# EAGLE library part IC_SMSC_USB2517 (library ScottsLib)
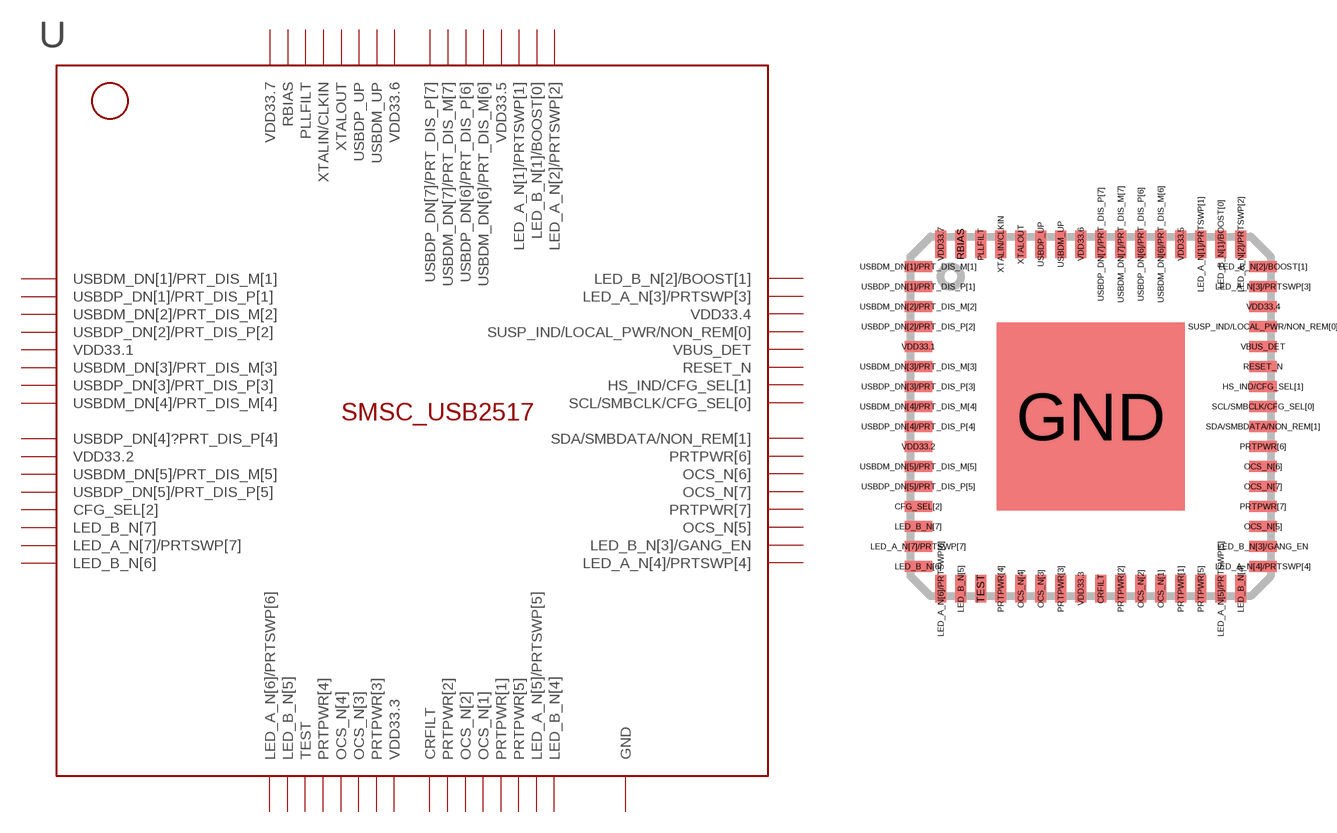
[diagram p0: symbol with the pads of QFN-64; footprint QFN-64]

Designator prefix -

## IC_SMSC_USB2517  [QFN-64]
CFG_SEL[2]  CFG_SEL[2]
CRFILT  CRFILT
GND  GND
HS_IND/CFG_SEL[1]  HS_IND/CFG_SEL[1]
LED_A_N[1]/PRTSWP[1]  LED_A_N[1]/PRTSWP[1]
LED_A_N[2]/PRTSWP[2]  LED_A_N[2]/PRTSWP[2]
LED_A_N[3]/PRTSWP[3]  LED_A_N[3]/PRTSWP[3]
LED_A_N[4]/PRTSWP[4]  LED_A_N[4]/PRTSWP[4]
LED_A_N[5]/PRTSWP[5]  LED_A_N[5]/PRTSWP[5]
LED_A_N[6]/PRTSWP[6]  LED_A_N[6]/PRTSWP[6]
LED_A_N[7]/PRTSWP[7]  LED_A_N[7]/PRTSWP[7]
LED_B_N[1]/BOOST[0]  LED_B_N[1]/BOOST[0]
LED_B_N[2]/BOOST[1]  LED_B_N[2]/BOOST[1]
LED_B_N[3]/GANG_EN  LED_B_N[3]/GANG_EN
LED_B_N[4]  LED_B_N[4]
LED_B_N[5]  LED_B_N[5]
LED_B_N[6]  LED_B_N[6]
LED_B_N[7]  LED_B_N[7]
OCS_N[1]  OCS_N[1]
OCS_N[2]  OCS_N[2]
OCS_N[3]  OCS_N[3]
OCS_N[4]  OCS_N[4]
OCS_N[5]  OCS_N[5]
OCS_N[6]  OCS_N[6]
OCS_N[7]  OCS_N[7]
PLLFILT  PLLFILT
PRTPWR[1]  PRTPWR[1]
PRTPWR[2]  PRTPWR[2]
PRTPWR[3]  PRTPWR[3]
PRTPWR[4]  PRTPWR[4]
PRTPWR[5]  PRTPWR[5]
PRTPWR[6]  PRTPWR[6]
PRTPWR[7]  PRTPWR[7]
RBIAS  RBIAS
RESET_N  RESET_N
SCL/SMBCLK/CFG_SEL[0]  SCL/SMBCLK/CFG_SEL[0]
SDA/SMBDATA/NON_REM[1]  SDA/SMBDATA/NON_REM[1]
SUSP_IND/LOCAL_PWR/NON_REM[0]  SUSP_IND/LOCAL_PWR/NON_REM[0]
TEST  TEST
USBDM_DN[1]/PRT_DIS_M[1]  USBDM_DN[1]/PRT_DIS_M[1]
USBDM_DN[2]/PRT_DIS_M[2]  USBDM_DN[2]/PRT_DIS_M[2]
USBDM_DN[3]/PRT_DIS_M[3]  USBDM_DN[3]/PRT_DIS_M[3]
USBDM_DN[4]/PRT_DIS_M[4]  USBDM_DN[4]/PRT_DIS_M[4]
USBDM_DN[5]/PRT_DIS_M[5]  USBDM_DN[5]/PRT_DIS_M[5]
USBDM_DN[6]/PRT_DIS_M[6]  USBDM_DN[6]/PRT_DIS_M[6]
USBDM_DN[7]/PRT_DIS_M[7]  USBDM_DN[7]/PRT_DIS_M[7]
USBDM_UP  USBDM_UP
USBDP_DN[1]/PRT_DIS_P[1]  USBDP_DN[1]/PRT_DIS_P[1]
USBDP_DN[2]/PRT_DIS_P[2]  USBDP_DN[2]/PRT_DIS_P[2]
USBDP_DN[3]/PRT_DIS_P[3]  USBDP_DN[3]/PRT_DIS_P[3]
USBDP_DN[4]/PRT_DIS_P[4]  USBDP_DN[4]?PRT_DIS_P[4]
USBDP_DN[5]/PRT_DIS_P[5]  USBDP_DN[5]/PRT_DIS_P[5]
USBDP_DN[6]/PRT_DIS_P[6]  USBDP_DN[6]/PRT_DIS_P[6]
USBDP_DN[7]/PRT_DIS_P[7]  USBDP_DN[7]/PRT_DIS_P[7]
USBDP_UP  USBDP_UP
VBUS_DET  VBUS_DET
VDD33.1  VDD33.1
VDD33.2  VDD33.2
VDD33.3  VDD33.3
VDD33.4  VDD33.4
VDD33.5  VDD33.5
VDD33.6  VDD33.6
VDD33.7  VDD33.7
XTALIN/CLKIN  XTALIN/CLKIN
XTALOUT  XTALOUT

## Footprint QFN-64 (pad centres in mm)
smd 0.69 x 0.28: CFG_SEL[2] -4.31,-2.25; HS_IND/CFG_SEL[1] 4.31,0.75; LED_A_N[3]/PRTSWP[3] 4.31,3.25; LED_A_N[4]/PRTSWP[4] 4.31,-3.75; LED_A_N[7]/PRTSWP[7] -4.31,-3.25; LED_B_N[2]/BOOST[1] 4.31,3.75; LED_B_N[3]/GANG_EN 4.31,-3.25; LED_B_N[6] -4.31,-3.75; LED_B_N[7] -4.31,-2.75; OCS_N[5] 4.31,-2.75; OCS_N[6] 4.31,-1.25; OCS_N[7] 4.31,-1.75; PRTPWR[6] 4.31,-0.75; PRTPWR[7] 4.31,-2.25; RESET_N 4.31,1.25; SCL/SMBCLK/CFG_SEL[0] 4.31,0.25; SDA/SMBDATA/NON_REM[1] 4.31,-0.25; SUSP_IND/LOCAL_PWR/NON_REM[0] 4.31,2.25; USBDM_DN[1]/PRT_DIS_M[1] -4.31,3.75; USBDM_DN[2]/PRT_DIS_M[2] -4.31,2.75; USBDM_DN[3]/PRT_DIS_M[3] -4.31,1.25; USBDM_DN[4]/PRT_DIS_M[4] -4.31,0.25; USBDM_DN[5]/PRT_DIS_M[5] -4.31,-1.25; USBDP_DN[1]/PRT_DIS_P[1] -4.31,3.25; USBDP_DN[2]/PRT_DIS_P[2] -4.31,2.25; USBDP_DN[3]/PRT_DIS_P[3] -4.31,0.75; USBDP_DN[4]/PRT_DIS_P[4] -4.31,-0.25; USBDP_DN[5]/PRT_DIS_P[5] -4.31,-1.75; VBUS_DET 4.31,1.75; VDD33.1 -4.31,1.75; VDD33.2 -4.31,-0.75; VDD33.4 4.31,2.75
smd 0.28 x 0.69: CRFILT 0.25,-4.31; LED_A_N[1]/PRTSWP[1] 2.75,4.31; LED_A_N[2]/PRTSWP[2] 3.75,4.31; LED_A_N[5]/PRTSWP[5] 3.25,-4.31; LED_A_N[6]/PRTSWP[6] -3.75,-4.31; LED_B_N[1]/BOOST[0] 3.25,4.31; LED_B_N[4] 3.75,-4.31; LED_B_N[5] -3.25,-4.31; OCS_N[1] 1.75,-4.31; OCS_N[2] 1.25,-4.31; OCS_N[3] -1.25,-4.31; OCS_N[4] -1.75,-4.31; PLLFILT -2.75,4.31; PRTPWR[1] 2.25,-4.31; PRTPWR[2] 0.75,-4.31; PRTPWR[3] -0.75,-4.31; PRTPWR[4] -2.25,-4.31; PRTPWR[5] 2.75,-4.31; RBIAS -3.25,4.31; TEST -2.75,-4.31; USBDM_DN[6]/PRT_DIS_M[6] 1.75,4.31; USBDM_DN[7]/PRT_DIS_M[7] 0.75,4.31; USBDM_UP -0.75,4.31; USBDP_DN[6]/PRT_DIS_P[6] 1.25,4.31; USBDP_DN[7]/PRT_DIS_P[7] 0.25,4.31; USBDP_UP -1.25,4.31; VDD33.3 -0.25,-4.31; VDD33.5 2.25,4.31; VDD33.6 -0.25,4.31; VDD33.7 -3.75,4.31; XTALIN/CLKIN -2.25,4.31; XTALOUT -1.75,4.31
smd 4.7 x 4.7: GND 0,0